# Altium schematic symbol library ESDALC6V1-1M2.SchLib: 1 symbol
Pins are listed as number, name and electrical type; pins without a type are passive.

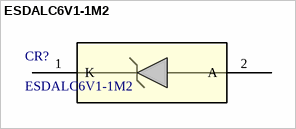
[diagram p0: symbol ESDALC6V1-1M2]

## ESDALC6V1-1M2
designator CR?
Single line low capacitance Transil&#8482;, transient surge voltage suppressor (TVS) for ESD protection; Manufacturer_Name: STMicroelectronics; Copyright: Copyright (C) 2025 Ultra Librarian. All rights reserved.; Manufacturer_Part_Number: ESDALC6V1-1M2; RefDes: RefDes; Type: Type
footprint SOD882_STM
pins: 1 K, 2 A